# Altium footprint library CH340G.PcbLib: 1 footprints
Each footprint in its own frame and in the unit in brackets; x right, y up, seen from the top. Pads: shape width x height; smd on the part's side, far side on the other; paste and mask are expansions set on the pad; w line width, h text height; cw(c..) or ccw(c..) is an arc to the next point about the centre after c.
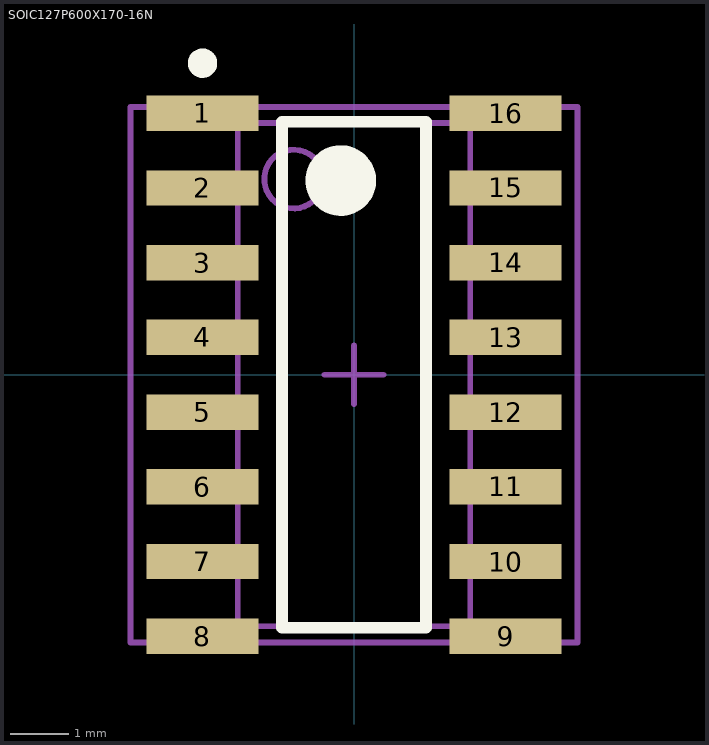
[diagram p0: the footprint, top view; thin cyan lines are the x and y axes]

## SOIC127P600X170-16N [mm] "SOIC, 16-Leads, Body 8.6x4.0mm (max), Pitch 1.27mm, IPC Medium Density"
height 1.7
pads (16):
  rect 1.9x0.6 smd: 1(-2.575,4.445) 2(-2.575,3.175) 3(-2.575,1.905) 4(-2.575,0.635) 5(-2.575,-0.635) 6(-2.575,-1.905) 7(-2.575,-3.175) 8(-2.575,-4.445) 9(2.575,-4.445) 10(2.575,-3.175) 11(2.575,-1.905) 12(2.575,-0.635) 13(2.575,0.635) 14(2.575,1.905) 15(2.575,3.175) 16(2.575,4.445)
Top Overlay:
  circle w0.6: c-0.225,3.3 r0.3
  circle w0.25: c-2.575,5.295 r0.125
  lines w0.2: -1.225,-4.3 1.225,-4.3 1.225,4.3 -1.225,4.3 -1.225,-4.3
Mechanical 13:
  circle w0.1: c-1.025,3.325 r0.5
  lines w0.1: -1.975,-4.275 1.975,-4.275 1.975,4.275 -1.975,4.275 -1.975,-4.275
Mechanical 15:
  lines w0.1: -0.5,0 0.5,0 ; 0,-0.5 0,0.5 ; -3.8,-4.55 3.8,-4.55 3.8,4.55 -3.8,4.55 -3.8,-4.55
3D body: height 1.7, standoff 0.16, extent -1.975,-4.275 1.975,4.275